# Altium schematic symbol library BTS7960大功率直流电机驱动.SCHLIB: 14 symbols
Pins are listed as number, name and electrical type; pins without a type are passive.

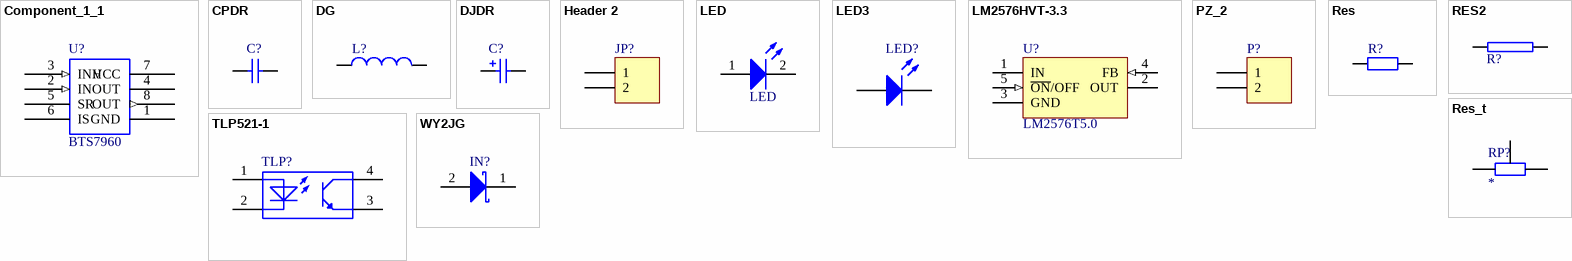
[diagram p0: symbols Component_1_1 to WY2JG]

## Component_1_1
designator U?, comment BTS7960
footprint BTS7960 (贴片BTS7960)
footprint BTS7960 (贴片BTS7960)
pins: 1 GND (power), 2 IN (in), 3 INH (in), 4 OUT, 5 SR, 6 IS, 7 VCC (power), 8 OUT (out)

## CPDR
designator C?  (value not drawn)
瓷片电容; Value: 104; Published: 8-Jun-2000; LatestRevisionDate: 17-Jul-2002; LatestRevisionNote: Re-released for DXP Platform.; Publisher: Altium Limited
footprint 0805
simulation model CAP (Capacitor)
signal-integrity model Cap
pins: 1, 2

## DG
designator L?  (value not drawn)
电感; Code_IEC: 1005; Value: 100UH; Published: 8-Jun-2000; LatestRevisionDate: 17-Jul-2002; LatestRevisionNote: Re-released for DXP Platform.; PackageReference: 0402-A; Publisher: Altium Limited; Code_JEITA: 0402
footprint L_DG (100mH 电感)
footprint INDC1608-0603 (Chip Inductor; Body 1.6 x 0.8 mm (LxW typ))
footprint INDC2010-0804 (2012 Chip; Chip Inductor; Body 2.0 x 1.2 mm (LxW typ))
footprint INDC2012-0805 (Chip Inductor; Body 2 x 1.2 mm (LxW typ))
footprint INDC3216-1206 (3216 Chip; Chip Inductor; Body 3.2 x 1.6 mm (LxW typ))
footprint INDC4510-1804 (4564 Chip; Chip Inductor; Body 4.5 x 6.4 mm (LxW typ))
simulation model INDUCTOR (Inductor)
signal-integrity model Inductor
pins: 1, 2

## DJDR
designator C?  (value not drawn)
电解电容; Value: 0.1UF/50V; Published: 8-Jun-2000; LatestRevisionDate: 17-Jul-2002; LatestRevisionNote: Re-released for DXP Platform.; Publisher: Altium Limited
simulation model CAP (Capacitor)
signal-integrity model Cap Pol
footprint C-DJ-6 (电容6mm)
footprint DJDR_5mm (电解电容)
footprint DJDR_8mm (电解电容)
footprint C 220/50
footprint C 2200/50
pins: 1, 2
1 alternate drawing of the same symbol

## Header 2
designator JP?  (value not drawn)
Header, 2-Pin; LatestRevisionDate: 17-Jul-2002; LatestRevisionNote: Re-released for DXP Platform.; Publisher: Altium Limited
footprint JIKEKE-2 (可插拔接线端子)
signal-integrity model Connector
pins: 1, 2

## LED
designator DS?
发光二极管; Published: 8-Jun-2000; LatestRevisionDate: 17-Jul-2002; LatestRevisionNote: Re-released for DXP Platform.; Publisher: Altium Limited
footprint LED_D (发光二极管_3mm)
simulation model LED1 (Diode)
pins: 1 A, 2 K

## LED3
designator LED?
Typical BLUE SiC LED; Published: 8-Jun-2000; LatestRevisionDate: 17-Dec-2003; LatestRevisionNote: PCB Footprint replaced.; Publisher: Altium Limited
footprint HDR1X2 (Connector; Header; 2 Position)
simulation model LED3 (Diode)
pins: 1 A, 2 K

## LM2576HVT-3.3
designator U?, comment LM2576T5.0
Simple Switcher 3A Step Down Voltage Regulator; PackageDocument: 2000; Note: Tab is connected to GND; Published: 15-Apr-2002; DatasheetDocument: Jun-1999; PackageReference: T05A; Publisher: Altium Limited; Code_JEDEC: TS-001-AA; ComponentLink1Description: Manufacturer Link; ComponentLink1URL: http://www.national.com/
footprint 2576_TP (贴片2576)
pins: 1 IN (power), 2 OUT (power), 3 GND (power), 4 FB (in), 5 ~{ON}/OFF (in)

## PZ_2
designator P?  (value not drawn)
排针——2; LatestRevisionDate: 17-Jul-2002; LatestRevisionNote: Re-released for DXP Platform.; Publisher: Altium Limited
footprint JIKEKE-2 (可插拔接线端子)
signal-integrity model Connector
pins: 1, 2

## Res
designator R?  (value not drawn)
电阻; Value: 1K; Published: 8-Jun-2000; LatestRevisionDate: 17-Jul-2002; LatestRevisionNote: Re-released for DXP Platform.; Publisher: Altium Limited
footprint 0805
simulation model RESISTOR (Resistor)
signal-integrity model Res
pins: 1, 2

## RES2
designator R?
footprint 0805
pins: 1, 2

## Res_t
designator RP?
footprint VR5 (Thru-Hole; 3 Leads)
pins: 1, 2, 3

## TLP521-1
designator TLP?
footprint DIP-4 (DIP; 4 Leads; Row Spacing 7.62 mm; Pitch 2.54 mm)
footprint DIP4
pins: 1, 2, 3, 4

## WY2JG
designator IN?  (value not drawn)
稳压二级管; Published: 8-Jun-2000; LatestRevisionDate: 17-Jul-2002; LatestRevisionNote: Re-released for DXP Platform.; Publisher: Altium Limited; Code_JEDEC: DO-214-AA
footprint ZCDZL (直插电阻立式插)
simulation model SKYDIODE (Diode)
signal-integrity model D Schottky
pins: 1 A, 2 K